# EAGLE library part NCJ5FI (library con-neutrik_xlr_2)
NCJ5FI Combination - 3 pin Female XLR - 2 pin 1/4" socket Combo I series With or without retention latch Source: www.neutrik.com/
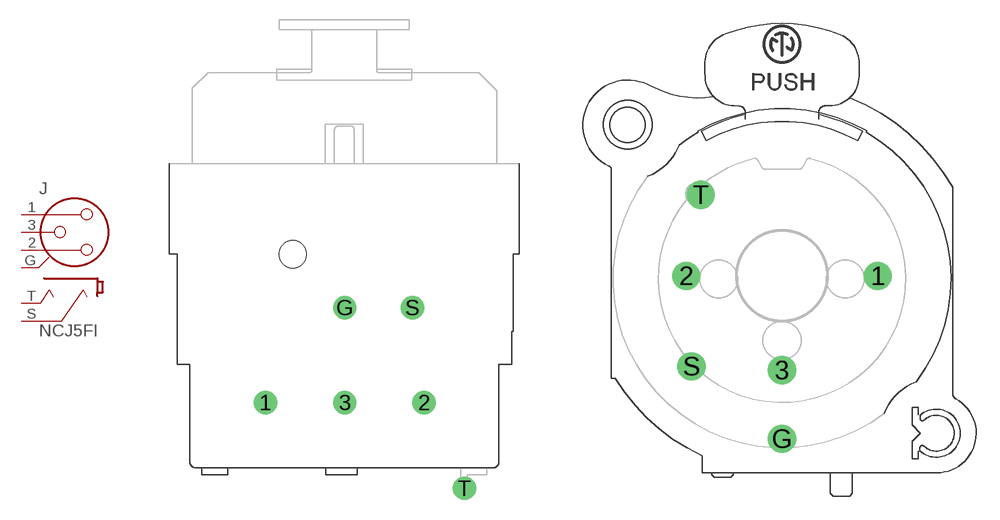
[diagram p4: symbol with the pads of NCJ5FI-H; footprints NCJ5FI-H, NCJ5FI-V]

Designator prefix J

## NCJ5FI-H  [NCJ5FI-H]
1  1  pas
2  2  pas
3  3  pas
G  G  pas
S  S  pas
T  T  pas

## NCJ5FI-V  [NCJ5FI-V]
Pads as for NCJ5FI-H

## NCJ5FI-H-0  [NCJ5FI-H]
Pads as for NCJ5FI-H

## NCJ5FI-V-0  [NCJ5FI-V]
Pads as for NCJ5FI-H

## Footprint NCJ5FI-H (pad centres in mm)
NCJ5FI-H Combo I Series XLR/2 Pole Jack Not Switched Horizontal orientation (with or without latch)
drill 1.2: 1 -6.1,-18.4; 2 6.1,-18.4; 3 0,-18.4; G 0,-11.1; S 5.2,-11.1; T 9.2,-25
hole 2.1 at -4,-7

## Footprint NCJ5FI-V (pad centres in mm)
NCJ5FI-V Combo I Series XLR/2 Pole Jack Not Switched Vertical orientation (with or without latch)
drill 1.2: 1 6.15,0; 2 -6.15,0; 3 0,-6.05; G 0,-10.45; S -5.8,-5.8; T -5.2,5.2